# EAGLE library part 74AHCT125 (library saha-cpu)
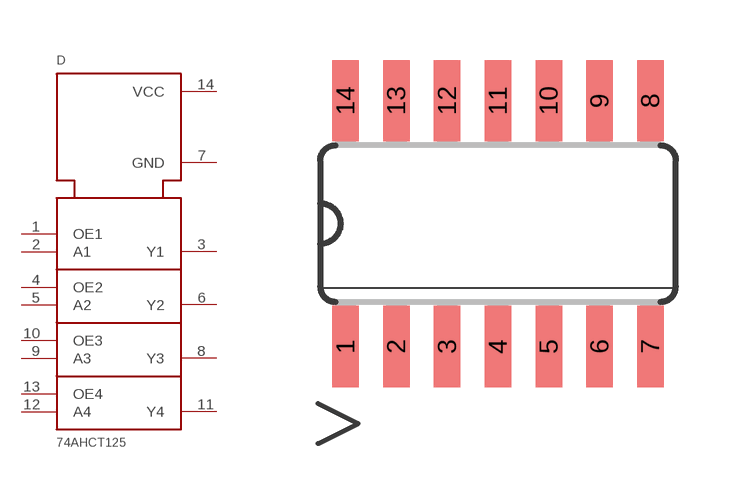
[diagram p0: symbol with the pads of SO14; footprint SO14]

Designator prefix D

## 74AHCT125  [SO14]
1  OE1
2  A1
3  Y1
4  OE2
5  A2
6  Y2
7  GND
8  Y3
9  A3
10  OE3
11  Y4
12  A4
13  OE4
14  VCC

## Footprint SO14 (pad centres in mm)
Small Outline package 150 mil
smd 0.66 x 2.032: 1 -3.81,-3.073; 2 -2.54,-3.073; 3 -1.27,-3.073; 4 0,-3.073; 5 1.27,-3.073; 6 2.54,-3.073; 7 3.81,-3.073; 8 3.81,3.073; 9 2.54,3.073; 10 1.27,3.073; 11 0,3.073; 12 -1.27,3.073; 13 -2.54,3.073; 14 -3.81,3.073